# Altium schematic symbol library JST_SM04B-SRSS-TB.SchLib: 1 symbol
Pins are listed as number, name and electrical type; pins without a type are passive.

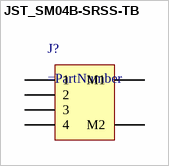
[diagram p0: symbol JST_SM04B-SRSS-TB]

## JST_SM04B-SRSS-TB
designator J?
pins: 1, 2, 3, 4, M1, M2